# Altium schematic symbol library Buzzers.SchLib: 3 symbols
Pins are listed as number, name and electrical type; pins without a type are passive.

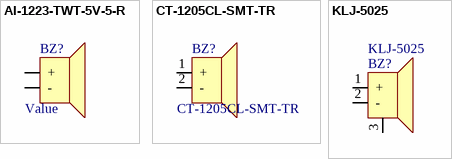
[diagram p0: symbols AI-1223-TWT-5V-5-R to KLJ-5025]

## AI-1223-TWT-5V-5-R
designator BZ?, comment Value
AUDIO MAGNETIC INDICATOR 4-7V TH; Manufacturer: PUI Audio, Inc.; Manufacturer Part Number: AI-1223-TWT-5V-5-R; Driver Circuitry: Indicator, Internally Driven; Input Type: DC; Voltage - Rated: 5V; Voltage Range: 4 ~ 7V; Frequency: 2.3kHz; Operating Mode: Single Tone; Sound Pressure Level: 85dB @ 5V, 10cm; Current - Supply: 30mA; Port Location: Top; Ratings: Washable; Value: AI-1223-TWT-5V-5-R; Supplier 1: Digi-Key; Supplier Part Number 1: 668-1458-ND; RoHS: RoHS Compliant; Category: Audio Products; Stock 1: 7225; Pricing 1: 1=1.51, 10=1.375, 100=1.1, 500=0.913, 1000=0.7975, 5000=0.715 (USD); Packaging: Tray; Technology: Magnetic; Duration: -; Operating Temperature: -20°C ~ 70°C; Approvals: -; Mounting Type: Through Hole; Termination: PC Pins; Size / Dimension: 12.0mm Dia x 9.5mm H; Height - Seated (Max): *; ComponentLink1URL: http://www.puiaudio.com/pdf/AI-1223-TWT-5V-5-R.pdf; ComponentLink1Description: http://www.puiaudio.com/pdf/AI-1223-TWT-5V-5-R.pdf
footprint AI-1223-TWT-5V-5-R (12.0 mm D x 9.5 mm H)
pins: +, -

## CT-1205CL-SMT-TR
designator BZ?
AUDIO MAGNETIC IND 4-7V SMD; Manufacturer: CUI Inc.; Driver Circuitry: Indicator, Internally Driven; Input Type: DC; Voltage - Rated: 5V; Voltage Range: 4 ~ 7V; Frequency: 2.4kHz; Operating Mode: Single Tone; Sound Pressure Level: 88dB @ 5V, 10cm; Current - Supply: 30mA; Port Location: Top; Ratings: Washable; Supplier 1: Digi-Key; Supplier Part Number 1: 102-1267-1-ND; Manufacturer Part Number: CT-1205CL-SMT-TR; RoHS: RoHS Compliant; Category: Audio Products; Stock 1: 43697; Pricing 1: 1=3.64, 10=3.01, 100=2.2572 (USD); Packaging: Cut Tape (CT); Technology: Magnetic; Duration: -; Operating Temperature: -30°C ~ 70°C; Approvals: -; Mounting Type: Surface Mount; Termination: Solder Pads; Size / Dimension: 12.8mm L x 12.8mm W x 7.6mm H; Height - Seated (Max): *; ComponentLink1URL: http://www.cui.com/product/resource/digikeypdf/ct-1205cl-smt.pdf; ComponentLink1Description: http://www.cui.com/product/resource/digikeypdf/ct-1205cl-smt.pdf; Value: CT-1205CL-SMT-TR
footprint CT-1205CL-SMT-TR (12.8 mm L x 12.8 mm A x 7.6 mm H)
pins: 1 +, 2 -

## KLJ-5025
designator BZ?
AUDIO MAGNETIC INDICATOR 3v 4000Hz 5x5MM SMD; Manufacturer: KELIKING; Driver Circuitry: Indicator, Internally Driven; Input Type: DC; Sound Pressure Level: 78dB @ 3V; Current - Supply: 30mA; Port Location: Top; Ratings: Washable; Supplier 1: LCSC; Supplier Part Number 1: C201046; Manufacturer Part Number: KLJ-5025; RoHS: RoHS Compliant; Category: Audio Products; Stock 1: 7225; Pricing 1: 1=1.51, 10=1.375, 100=1.1, 500=0.913, 1000=0.7975, 5000=0.715 (USD); Packaging: Tray; Voltage - Rated: 3V; Frequency: 4000Hz; Technology: Magnetic; Operating Temperature: -20°C ~ 70°C; Mounting Type: SMD; Size / Dimension: 5mm x 5mm; ComponentLink1URL: http://www.puiaudio.com/pdf/AI-1223-TWT-5V-5-R.pdf; ComponentLink1Description: http://www.puiaudio.com/pdf/AI-1223-TWT-5V-5-R.pdf; Value: KLJ-5025
footprint BUZ-SMD_4P-L5.0-W5.0-P3.80-TL
pins: 1 +, 2 -, 3 -